# EAGLE library part CAT24M01 (library ON Semiconductor)
1Mb I2C CMOS EEPROM
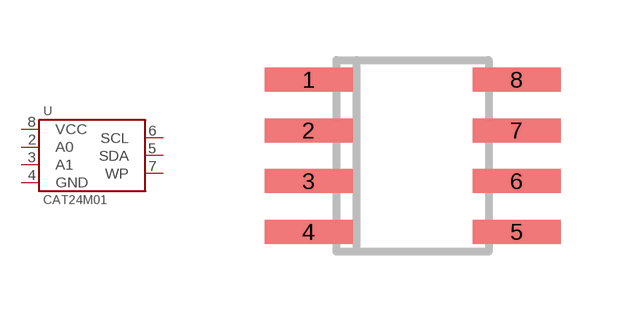
[diagram p0: symbol with the pads of SO-8; footprint SO-8]

Designator prefix U

## CAT24M01  [SO-8]
2  A0
3  A1
4  GND
5  SDA
6  SCL
7  WP
8  VCC

## Footprint SO-8 (pad centres in mm)
smd 2.2 x 0.6: 1 -2.6,1.905; 2 -2.6,0.635; 3 -2.6,-0.635; 4 -2.6,-1.905; 5 2.6,-1.905; 6 2.6,-0.635; 7 2.6,0.635; 8 2.6,1.905